# Altium integrated library xc7k160t.IntLib: 62 symbols (part 1 of 2)
Pins are listed as number, name and electrical type; pins without a type are passive.

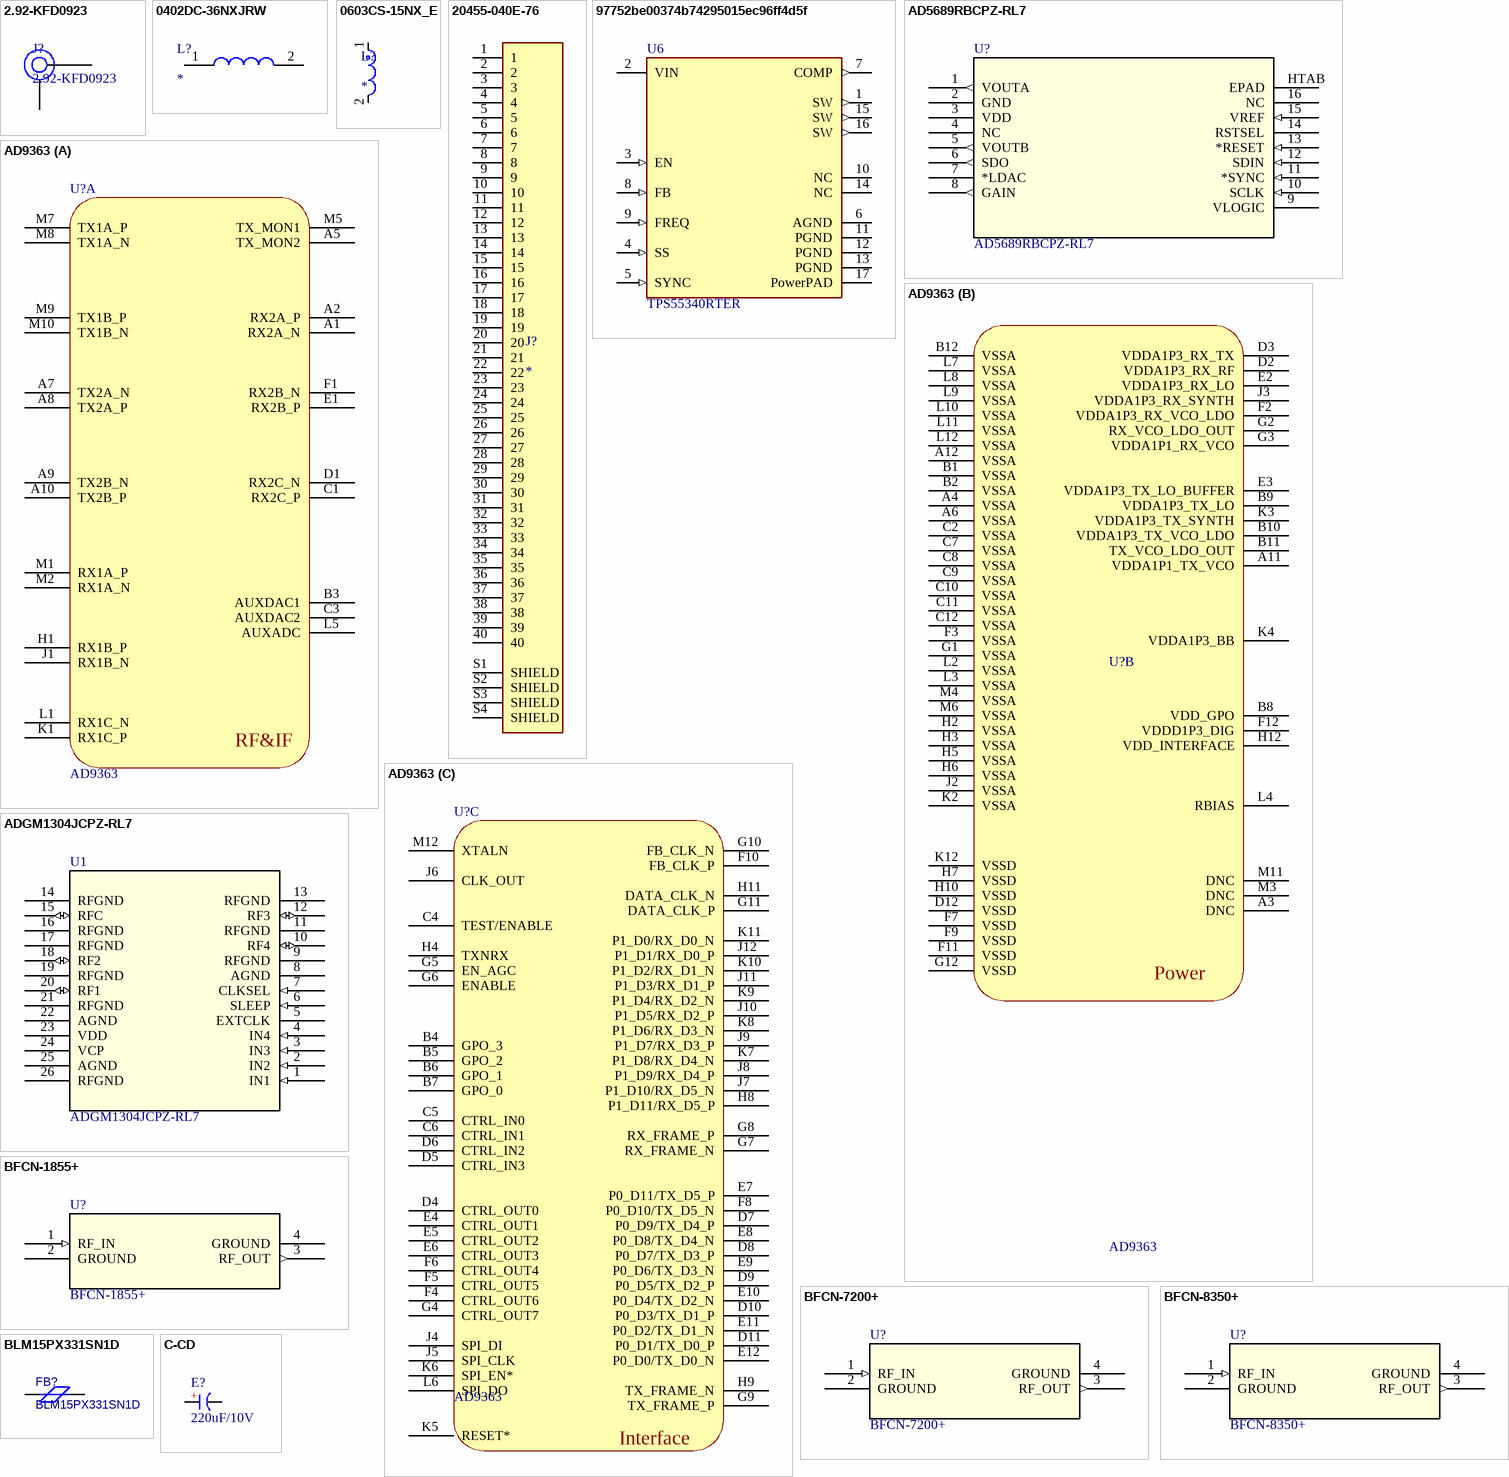
[diagram p0: symbols 2.92-KFD0923 to C-CD]

## 2.92-KFD0923
designator J?
DC-40GHz 2.92-KFD0923 / https://item.taobao.com/item.htm?spm=a230r.1.14.3.7a3843c14kVNjO&id=651065869210&ns=1&abbucket=15#detail
footprint 2.92-KFD0923
pins: 0, 1

## 0402DC-36NXJRW
designator L?
Inductor; Manufacturer_Name: COILCRAFT; Manufacturer_Part_Number: 0402DC-36NXJRW; Datasheet Link: https://componentsearchengine.com/Datasheets/1/0402DC-36NXJRW.pdf; Height: 0.65mm; Mouser Part Number: 994-0402DC-36NXJRW; Mouser Price/Stock: https://www.mouser.co.uk/ProductDetail/Coilcraft/0402DC-36NXJRW?qs=wnTfsH77Xs5b4nmRQW6u0w%3D%3D
footprint 0402DC SERIES (Coilcraft Chip Inductor)
pins: 1, 2

## 0603CS-15NX_E
designator L?
Ultra-small size, exceptional Q and high SRFs make these inductors ideal for high frequency applications where size is at a premium. They also have excellent DCR and current carrying / characteristics.
footprint 0603CS SERIES (Coilcraft Chip Inductor)
pins: 1, 2

## 20455-040E-76
designator J?
CMOS Connector 40Pin; MP: 20455-040E-76; Package: None; Price: None; Value: *; Availability: Unavailable
footprint IPEX_20455-040E-76
pins: 1, 2, 3, 4, 5, 6, 7, 8, 9, 10, 11, 12, 13, 14, 15, 16, 17, 18, 19, 20, 21, 22, 23, 24, 25, 26, 27, 28, 29, 30, 31, 32, 33, 34, 35, 36, 37, 38, 39, 40, S1 SHIELD, S2 SHIELD, S3 SHIELD, S4 SHIELD

## 97752be00374b74295015ec96ff4d5f
designator U6, comment TPS55340RTER
IC REG BOOST ADJ 5.25A 16WQFN; Number of Outputs: 1; Max Output Current: 5A; Max Output Voltage: 38V; Quiescent Current: 500uA; Synchronous Rectifier: No; Output Type: Adjustable; Switching Frequency: 1.14MHz; Min Input Voltage: 2.9V; Max Input Voltage: 32V; Topology: Boost; Number of Pins: 16; RoHS Compliant: Yes; Package Quantity: 3000; REACH SVHC: No SVHC; Mount: Surface Mount; Max Operating Temperature: 150°C; Contact Plating: Gold; Output Voltage: 38V; Min Operating Temperature: -40°C; Output Current: 5A; Lead Free: Lead Free; Series: -; Min Output Voltage: 2.9V; Packaging: Tape and Reel
footprint FP-RTE0016C-IPC_A
pins: 1 SW (out), 2 VIN (power), 3 EN (in), 4 SS (in), 5 SYNC (in), 6 AGND (power), 7 COMP (out), 8 FB (in), 9 FREQ (in), 10 NC, 11 PGND (power), 12 PGND (power), 13 PGND (power), 14 NC, 15 SW (out), 16 SW (out), 17 PowerPAD (power)

## AD5689RBCPZ-RL7
designator U?
Dual, 16-/12-Bit nanoDAC+ with 2 ppm/°C Reference, SPI Interface; Vendor: Analog Devices Inc; Built_By: EMA_UL_Team; SourceLibrary: Analog_2015-01-06; Manufacturer_Part_Number: AD5689RBCPZ-RL7; Copyright: Copyright (C) 2021 Accelerated Designs. All rights reserved; RefDes: RefDes; Type: DEV
footprint CP_16_22_ADI
footprint CP_16_22_ADI-L
pins: 1 VOUTA (out), 2 GND (power), 3 VDD (power), 4 NC, 5 VOUTB (out), 6 SDO (out), 7 *LDAC, 8 GAIN (out), 9 VLOGIC (power), 10 SCLK (in), 11 *SYNC (in), 12 SDIN (in), 13 *RESET (in), 14 RSTSEL, 15 VREF (in), 16 NC, HTAB EPAD

## AD9363
designator U?
footprint AD936X (Footprint not found)
part A pins: A1 RX2A_N, A2 RX2A_P, A5 TX_MON2, A7 TX2A_N, A8 TX2A_P, A9 TX2B_N, A10 TX2B_P, B3 AUXDAC1, C1 RX2C_P, C3 AUXDAC2, D1 RX2C_N, E1 RX2B_P, F1 RX2B_N, H1 RX1B_P, J1 RX1B_N, K1 RX1C_P, L1 RX1C_N, L5 AUXADC, M1 RX1A_P, M2 RX1A_N, M5 TX_MON1, M7 TX1A_P, M8 TX1A_N, M9 TX1B_P, M10 TX1B_N
part B pins: A3 DNC, A4 VSSA, A6 VSSA, A11 VDDA1P1_TX_VCO, A12 VSSA, B1 VSSA, B2 VSSA, B8 VDD_GPO, B9 VDDA1P3_TX_LO, B10 VDDA1P3_TX_VCO_LDO, B11 TX_VCO_LDO_OUT, B12 VSSA, C2 VSSA, C7 VSSA, C8 VSSA, C9 VSSA, C10 VSSA, C11 VSSA, C12 VSSA, D2 VDDA1P3_RX_RF, D3 VDDA1P3_RX_TX, D12 VSSD, E2 VDDA1P3_RX_LO, E3 VDDA1P3_TX_LO_BUFFER, F2 VDDA1P3_RX_VCO_LDO, F3 VSSA, F7 VSSD, F9 VSSD, F11 VSSD, F12 VDDD1P3_DIG, G1 VSSA, G2 RX_VCO_LDO_OUT, G3 VDDA1P1_RX_VCO, G12 VSSD, H2 VSSA, H3 VSSA, H5 VSSA, H6 VSSA, H7 VSSD, H10 VSSD, H12 VDD_INTERFACE, J2 VSSA, J3 VDDA1P3_RX_SYNTH, K2 VSSA, K3 VDDA1P3_TX_SYNTH, K4 VDDA1P3_BB, K12 VSSD, L2 VSSA, L3 VSSA, L4 RBIAS, L7 VSSA, L8 VSSA, L9 VSSA, L10 VSSA, L11 VSSA, L12 VSSA, M3 DNC, M4 VSSA, M6 VSSA, M11 DNC
part C pins: B4 GPO_3, B5 GPO_2, B6 GPO_1, B7 GPO_0, C4 TEST/ENABLE, C5 CTRL_IN0, C6 CTRL_IN1, D4 CTRL_OUT0, D5 CTRL_IN3, D6 CTRL_IN2, D7 P0_D9/TX_D4_P, D8 P0_D7/TX_D3_P, D9 P0_D5/TX_D2_P, D10 P0_D3/TX_D1_P, D11 P0_D1/TX_D0_P, E4 CTRL_OUT1, E5 CTRL_OUT2, E6 CTRL_OUT3, E7 P0_D11/TX_D5_P, E8 P0_D8/TX_D4_N, E9 P0_D6/TX_D3_N, E10 P0_D4/TX_D2_N, E11 P0_D2/TX_D1_N, E12 P0_D0/TX_D0_N, F4 CTRL_OUT6, F5 CTRL_OUT5, F6 CTRL_OUT4, F8 P0_D10/TX_D5_N, F10 FB_CLK_P, G4 CTRL_OUT7, G5 EN_AGC, G6 ENABLE, G7 RX_FRAME_N, G8 RX_FRAME_P, G9 TX_FRAME_P, G10 FB_CLK_N, G11 DATA_CLK_P, H4 TXNRX, H8 P1_D11/RX_D5_P, H9 TX_FRAME_N, H11 DATA_CLK_N, J4 SPI_DI, J5 SPI_CLK, J6 CLK_OUT, J7 P1_D10/RX_D5_N, J8 P1_D9/RX_D4_P, J9 P1_D7/RX_D3_P, J10 P1_D5/RX_D2_P, J11 P1_D3/RX_D1_P, J12 P1_D1/RX_D0_P, K5 RESET*, K6 SPI_EN*, K7 P1_D8/RX_D4_N, K8 P1_D6/RX_D3_N, K9 P1_D4/RX_D2_N, K10 P1_D2/RX_D1_N, K11 P1_D0/RX_D0_N, L6 SPI_DO, M12 XTALN
part A text: RF&IF
part B text: Power
part C text: Interface

## ADGM1304JCPZ-RL7
designator U1
0 Hz/dc to 14 GHz, Single-Pole, Four-Throw MEMS Switch with Integrated Driver; Mfr_Name: Analog Devices Inc; Copyright: Copyright (C) 2022 Ultra Librarian. All rights reserved.; Manufacturer_Part_Number: ADGM1304JCPZ-RL7; RefDes: RefDes; Type: DEV
footprint CP-24-9_ADI
footprint CP-24-9_ADI-L
pins: 1 IN1 (in), 2 IN2 (in), 3 IN3 (in), 4 IN4 (in), 5 EXTCLK, 6 SLEEP (in), 7 CLKSEL (in), 8 AGND, 9 RFGND, 10 RF4 (io), 11 RFGND, 12 RF3 (io), 13 RFGND, 14 RFGND, 15 RFC (io), 16 RFGND, 17 RFGND, 18 RF2 (io), 19 RFGND, 20 RF1 (io), 21 RFGND, 22 AGND, 23 VDD (power), 24 VCP (power), 25 AGND, 26 RFGND

## BFCN-1855+
designator U?
Mini-Circuits LTCC Bandpass Filter; Manufacturer_Part_Number: BFCN-2435+; Vendor: Mini Circuits; Built_By: EMA_Cory; SourceLibrary: Mini_Circuits_2019-12-02; Copyright: Copyright (C) 2018 Accelerated Designs. All rights reserved; RefDes: RefDes; Type: DEV
footprint FV1206_MNC-L
pins: 1 RF_IN (in), 2 GROUND, 3 RF_OUT (out), 4 GROUND

## BFCN-7200+
designator U?
Mini-Circuits LTCC Bandpass Filter; Vendor: Mini Circuits; Built_By: EMA_Cory; SourceLibrary: Mini_Circuits_2020-04-01; Datasheet: https://www.minicircuits.com/pdfs/BFCN-7200+.pdf; Manufacturer_Part_Number: BFCN-7200+; Copyright: Copyright (C) 2018 Accelerated Designs. All rights reserved; RefDes: RefDes; Type: DEV
footprint FV1206-4_MNC-L
pins: 1 RF_IN (in), 2 GROUND, 3 RF_OUT (out), 4 GROUND

## BFCN-8350+
designator U?
Mini-Circuits LTCC Bandpass Filter; Manufacturer_Part_Number: BFCN-7200+; Vendor: Mini Circuits; Built_By: EMA_Cory; SourceLibrary: Mini_Circuits_2020-04-01; Datasheet: https://www.minicircuits.com/pdfs/BFCN-7200+.pdf; Copyright: Copyright (C) 2018 Accelerated Designs. All rights reserved; RefDes: RefDes; Type: DEV
footprint FV1206-4_MNC-L
pins: 1 RF_IN (in), 2 GROUND, 3 RF_OUT (out), 4 GROUND

## BLM15PX331SN1D
designator FB?
330 Ohms @ 100 MHz 1 Power Line Ferrite Bead 0402 (1005 Metric) 1.2A 150mOhm from Murata Electronics; Contributor: LCSC; BOM_Supplier: LCSC; BOM_Supplier Part: C160975; BOM_Manufacturer: Murata Electronics; BOM_Manufacturer Part: BLM15PX331SN1D; spicePre: U; spiceSymbolName: BLM15PX331SN1D
footprint L0402
pins: 1, 2

## C-CD
designator E?, comment 220uF/10V
贴片钽电容; 版权归属: 源创客; BOM名称: 贴片钽电容; 学习资源: www.ooocke.com
footprint CD A(3216) (长3.2mm，宽1.6mm，厚1.6mm)
footprint CD B(3528) (长3.5mm，宽2.8mm，厚1.9mm)
footprint CD C(6032) (长6.0mm，宽3.2mm，厚2.5mm)
footprint CD D(7343) (长7.3mm，宽4.3mm，厚2.8mm)
footprint CD E(7343H) (长7.3mm，宽4.3mm，厚4.0mm)
footprint CD S(2012) (长2.0mm，宽1.25mm，厚1.2mm)
pins: 1 A, 2 K
text: +

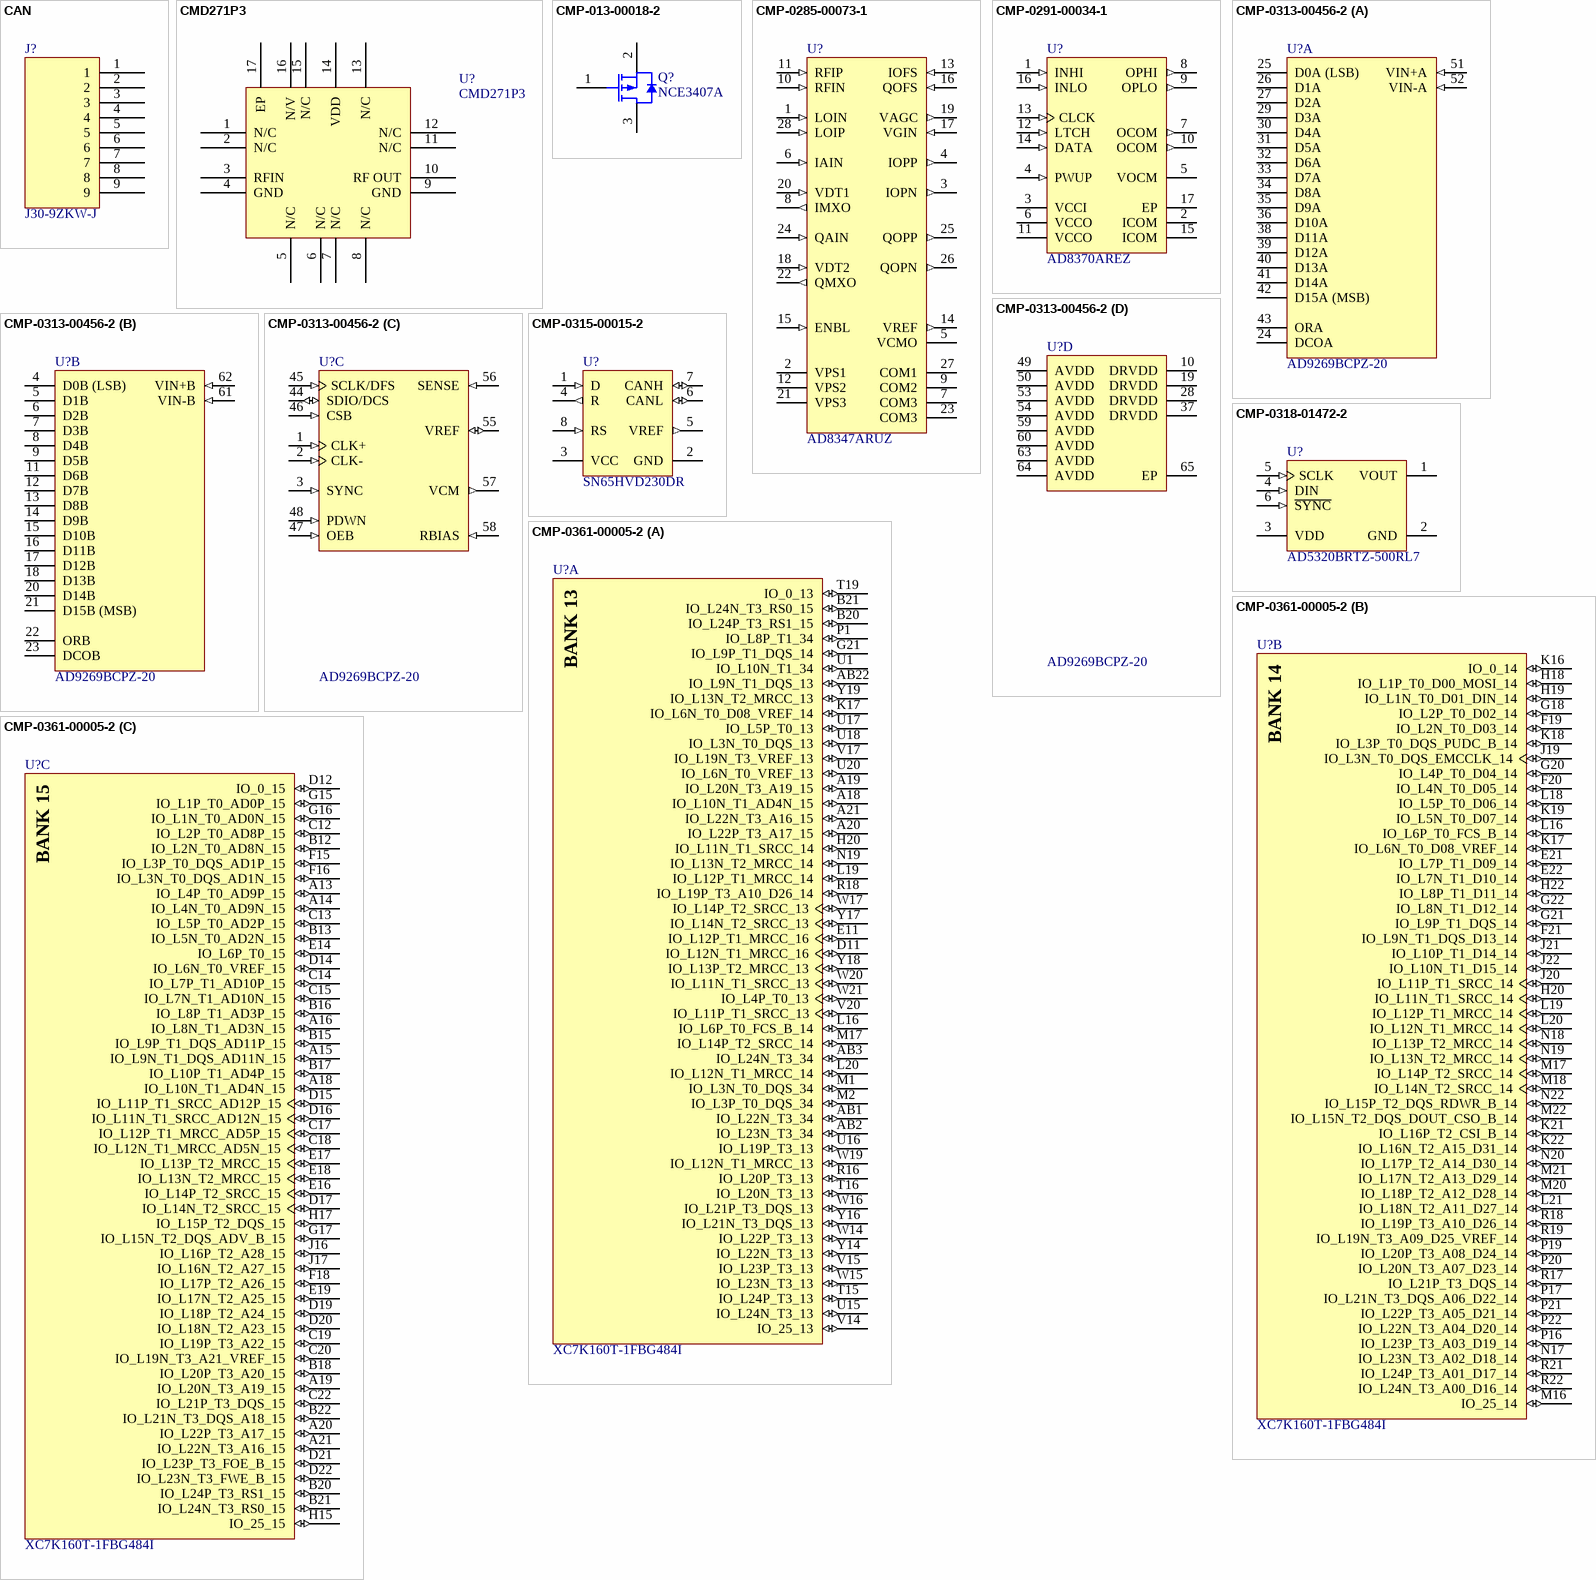
[diagram p1: symbols CAN to CMP-0361-00005-2]

## CAN
designator J?, comment J30-9ZKW-J
J30-9ZKW-J Connector
footprint CAN
pins: 1, 2, 3, 4, 5, 6, 7, 8, 9

## CMD271P3
designator U?
The CMD271P3 is a broadband MMIC low noise amplifier housed in a leadless 3x3 mm plastic surface mount QFN package.
footprint CMD271P3_QFN_MODIFIED (QFN, 16-Leads, Body 3.00x3.00mm, Pitch 0.50mm, Thermal Pad 1.50x1.50mm, IPC Medium Density)
pins: 1 N/C, 2 N/C, 3 RFIN, 4 GND, 5 N/C, 6 N/C, 7 N/C, 8 N/C, 9 GND, 10 RF OUT, 11 N/C, 12 N/C, 13 N/C, 14 VDD, 15 N/C, 16 N/V, 17 EP

## CMP-013-00018-2
designator Q?, comment NCE3407A
P-Channel Enhancement Mode Power MOSFET, 30 V, 4.3 A, - 55 to 150 degC, 3-Pin SOT23, RoHS, Tape and Reel; Manufacturer: NCE Power; Mounting Technology: SM; Package Reference: SOT23-3; Case/Package: SOT23-3; Package Description: 3-Pin Small Outline Transistor, Body 2.9 x 1.3 mm, Pitch 0.95 mm; Datasheet Version: Rev. 1.1, 07/2014; RoHS Compliant: Unknown; Datasheet URL: http://www.ncepower.com/Upload/MOSFET/mos1/55vpmos/NCE3407Adatasheet-17275285683.pdf; Component Type: Transistors
footprint NCEP-SOT23-3_M (SOT23, 3-Leads, Body 3x1.4mm, Pitch 0.95mm, IPC Low Density)
footprint NCEP-SOT23-3_N (SOT23, 3-Leads, Body 3x1.4mm, Pitch 0.95mm, IPC Medium Density)
footprint NCEP-SOT23-3_L (SOT23, 3-Leads, Body 3x1.4mm, Pitch 0.95mm, IPC High Density)
pins: 1 GATE, 2 SOURCE, 3 DRAIN

## CMP-0285-00073-1
designator U?, comment AD8347ARUZ
0.8 GHz to 2.7 GHz Direct Conversion Quadrature Demodulator, RU-28, Pb-Free, 50 Tube; Manufacturer: Analog Devices; IIP3 (+dBm): 11.5dBm; Output P1dB (dBm): 2; Amplitude Error (dB): 300mdB; IQ Freq (MHz): 65MHz; VGA Range (dB): 69.5dB; Min RF Frequency (MHz): 800MHz; Max RF Frequency (MHz): 2.7GHz; Phase Error (deg): 1Deg; PackageDescription: 28-Lead Thin Shrink Small Outline Package [TSSOP]; ComponentLink2URL: http://www.analog.com/static/imported-files/data_sheets/AD8347.pdf; PackageVersion: 2005; ComponentLink3Description: Package Specification; ComponentLink1URL: www.analog.com; Code_JEDEC: MO-153-AE; PackageReference: RU-28; DatasheetVersion: Rev. A; ComponentLink1Description: Manufacturer URL; ComponentLink2Description: Datasheet; ComponentLink3URL: http://www.analog.com/static/imported-files/packages/249854663RU_28.pdf; Manufacturer Part Number: AD8347ARUZ
footprint ADI-RU-28_M (TSOP, 28-Leads, Body 9.7x4.4mm, Pitch 0.65mm, IPC Low Density)
footprint ADI-RU-28_L (TSOP, 28-Leads, Body 9.7x4.4mm, Pitch 0.65mm, IPC High Density)
footprint ADI-RU-28_N (TSOP, 28-Leads, Body 9.7x4.4mm, Pitch 0.65mm, IPC Medium Density)
pins: 1 LOIN (in) "LO Input. For optimum performance, these inputs are differentially driven. Typical input drive level is equal to -8 dBm.[see datasheet]", 2 VPS1 (power) "Positive Supply for LO Section. Decouple VPS1 with 0.1 uF and 100 pF capacitors.", 3 IOPN (out) "I-Channel Differential Baseband Output. Typical output swing is equal to 760 mV p-p differential in AGC mode. The common-mode level on these pins is programmed by the voltage on VCMO.", 4 IOPP (out) "I-Channel Differential Baseband Output. Typical output swing is equal to 760 mV p-p differential in AGC mode. The common-mode level on these pins is programmed by the voltage on VCMO.", 5 VCMO "Baseband Amplifier Common-Mode Voltage. The voltage applied to this pin sets the output common-mode level of the baseband amplifiers.[see datasheet]", 6 IAIN (in) "I-Channel Baseband Amplifier Input. This pin, which has a high input impedance, should be biased to VREF (approximately 1 V).[see datasheet]", 7 COM3 (power) "Ground for Biasing and Baseband Sections.", 8 IMXO (out) "I-Channel and Q-Channel Baseband Mixer/VGA Outputs. Low impedance outputs with bias levels equal to VREF.[see datasheet]", 9 COM2 (power) "RF Section Ground.", 10 RFIN (in) "RF Input. RFIN must be ac-coupled to ground. The RF input signal should be ac-coupled into RFIP.[see datasheet]", 11 RFIP (in) "RF Input. RFIN must be ac-coupled to ground. The RF input signal should be ac-coupled into RFIP.[see datasheet]", 12 VPS2 (power) "Positive Supply for RF Section. Decouple VPS2 with 0.1 uF and 100 pF capacitors.", 13 IOFS (in) "I-Channel Offset Nulling Inputs.", 14 VREF (out) "Reference Voltage Output. This output voltage (1 V) is the main bias level for the device and can be used to externally bias the inputs and outputs of the baseband amplifiers. [see datasheet]", 15 ENBL (in) "Chip Enable Input. Active high.", 16 QOFS (in) "Q-Channel Offset Nulling Inputs.", 17 VGIN (in) "Gain Control Input. The voltage on this pin controls the gain on the RF and baseband VGAs. The gain control is applied in parallel to all VGAs.[see datasheet]", 18 VDT2 (in) "Detector Inputs. These pins are the inputs to the on-board detector. VDT2 and VDT1, which have high input impedances, are normally connected to IMXO and QMXO, respectively.", 19 VAGC (out) "AGC Output. This pin provides the output voltage from the on-board detector. In AGC mode, connect this pin directly to VGIN.", 20 VDT1 (in) "Detector Inputs. These pins are the inputs to the on-board detector. VDT2 and VDT1, which have high input impedances, are normally connected to IMXO and QMXO, respectively.", 21 VPS3 (power) "Positive Supply for Biasing and Baseband Sections. Decouple VPS3 with 0.1 uF and 100 pF capacitors.", 22 QMXO (out) "I-Channel and Q-Channel Baseband Mixer/VGA Outputs. Low impedance outputs with bias levels equal to VREF.[see datasheet]", 23 COM3 (power) "Ground for Biasing and Baseband Sections.", 24 QAIN (in) "Q-Channel Baseband Amplifier Input. Bias this high input impedance pin to VREF (approximately 1 V). If QAIN is directly connected to QMXO, biasing is provided by QMXO.[see datasheet]", 25 QOPP (out) "Q-Channel Differential Baseband Output. Typical output swing is equal to 760 mV p-p differential. The common-mode level on these pins is programmed by the voltage on VCMO.", 26 QOPN (out) "Q-Channel Differential Baseband Output. Typical output swing is equal to 760 mV p-p differential. The common-mode level on these pins is programmed by the voltage on VCMO.", 27 COM1 (power) "LO Section Ground.", 28 LOIP (in) "LO Input. For optimum performance, these inputs are differentially driven. Typical input drive level is equal to -8 dBm.[see datasheet]"

## CMP-0291-00034-1
designator U?, comment AD8370AREZ
LF to 750 MHz, Digitally Controlled VGA, 34dB, 5.5V, 78mA, RE-16-2, Pb-Free, 96 Tube; Manufacturer: Analog Devices; Spectral Noise: 2.1(nV/rtHz); Noise Figure: 7.4dB; Distortion (3rd): 62dBc; Distortion (2nd): 65dBc; Output IP3: 31dBm; -3 dB BW: 750MHz; ComponentLink3URL: http://www.analog.com/static/imported-files/packages/PKG_PDF/TSSOP_EP(RE)/RE_16_2.pdf; Gain: 34dB; Code_JEDEC: MO-153-ABT; DatasheetVersion: Rev. B; PackageDescription: 16-Lead Thin Shrink Small Outline With Exposed Pad [TSSOP_EP]; ComponentLink2URL: http://www.analog.com/static/imported-files/data_sheets/AD8370.pdf; PackageVersion: 050806-A; ComponentLink2Description: Datasheet; PackageReference: RE-16-2; ComponentLink3Description: Package Specification; Supply Voltage (V): 5.5V; ComponentLink1URL: www.analog.com; ComponentLink1Description: Manufacturer URL; Manufacturer Part Number: AD8370AREZ
footprint ADI-RE-16-2_M (TSOP, 16-Leads, Body 5x4.4mm, Pitch 0.65mm, Thermal Pad, IPC Low Density)
footprint ADI-RE-16-2_N (TSOP, 16-Leads, Body 5x4.4mm, Pitch 0.65mm, Thermal Pad, IPC Medium Density)
footprint ADI-RE-16-2_L (TSOP, 16-Leads, Body 5x4.4mm, Pitch 0.65mm, Thermal Pad, IPC High Density)
pins: 1 INHI (in) "Balanced Differential Input. Internally biased.", 2 ICOM (power) "Input Common. Connect to a low impedance ground. This node is also connected to the exposed pad on the bottom of the device.", 3 VCCI (power) "Input Positive Supply. 3.0 V to 5.5 V. Should be properly bypassed.", 4 PWUP (in) "Power Enable Pin. Device is operational when PWUP is pulled high.", 5 VOCM "Common-Mode Output Voltage Pin. The midsupply ((VVCCO - VOCOM)/2) common-mode voltage is delivered to this pin for external bypassing for additional common-mode supply decoupling. [see datasheet]", 6 VCCO (power) "Output Positive Supply. 3.0 V to 5.5 V. Should be properly bypassed.", 7 OCOM (out) "Output Common. Connect to a low impedance ground.", 8 OPHI (out) "Balanced Differential Output. Biased to midsupply.", 9 OPLO (out) "Balanced Differential Output. Biased to midsupply", 10 OCOM (out) "Output Common. Connect to a low impedance ground.", 11 VCCO (power) "Output Positive Supply. 3.0 V to 5.5 V. Should be properly bypassed.", 12 LTCH (in) "Serial Data Latch Pin. Serial data is clocked into the shift register via the DATA pin when LTCH is low. Data in shift register is latched on the next high-going edge.", 13 CLCK (in) "Serial Clock Input Pin.", 14 DATA (in) "Serial Data Input Pin.", 15 ICOM (power) "Input Common. Connect to a low impedance ground. This node is also connected to the exposed pad on the bottom of the device.", 16 INLO (in) "Balanced Differential Input.Internally biased.", 17 EP (power) "Exposed pad must be soldered to ground."

## CMP-0313-00456-2
designator U?, comment AD9269BCPZ-20
Dual 16-Bit Analog-to-Digital Converter with Parallel Interface, 1.8 V, 20MSPS, -40 to +85 degC, CP-64-4, Pb-Free, Tray; Manufacturer: Analog Devices; Generic Part Number: AD9269-20; Channels: 2; Throughput Rate (SPS): 20M; Resolution (Bits): 16; Interface: Par; DatasheetVersion: Rev.0; ComponentLink4URL: http://www.analog.com/en/analog-to-digital-converters/ad-converters/ad9269/products/product.html; ComponentLink1URL: http://www.analog.com/en/index.html; PartNumber: AD9269BCPZ-20; Mounting Technology: Surface Mount; PackageDescription: 64-Lead Lead Frame Chip Scale Package [LFCSP_VQ] 9 x 9 mm Body, Very Thin Quad; RoHS: Y; PackageVersion: 051007-C; ComponentLink3Description: Package Specification; ComponentLink2URL: http://www.analog.com/static/imported-files/data_sheets/AD9269.pdf; ComponentLink1Description: Manufacturer URL; PackageReference: CP-64-4; Code_JEDEC: MO-220-VMMD-4; ComponentLink2Description: Datasheet; Packing: Tray; ComponentLink4Description: Product URL; ComponentLink3URL: http://www.analog.com/static/imported-files/packages/PKG_PDF/LFCSP(CP)/CP_64_4.pdf; Manufacturer Part Number: AD9269BCPZ-20
footprint CP-64-4_N (QFN, 64-Leads, Body 9x9mm, Pitch 0.5mm, Thermal Pad 6.2x6.2mm, IPC Medium Density)
footprint CP-64-4_M (QFN, 64-Leads, Body 9x9mm, Pitch 0.5mm, Thermal Pad 6.2x6.2mm, IPC Low Density)
footprint CP-64-4_L (QFN, 64-Leads, Body 9x9mm, Pitch 0.5mm, Thermal Pad 6.2x6.2mm, IPC High Density)
part A pins: 24 DCOA (hiz) "Channel A Data Clock Digital Output.", 25 D0A (LSB) (hiz) "Channel A Digital Outputs.", 26 D1A (hiz) "Channel A Digital Outputs.", 27 D2A (hiz) "Channel A Digital Outputs.", 29 D3A (hiz) "Channel A Digital Outputs.", 30 D4A (hiz) "Channel A Digital Outputs.", 31 D5A (hiz) "Channel A Digital Outputs.", 32 D6A (hiz) "Channel A Digital Outputs.", 33 D7A (hiz) "Channel A Digital Outputs.", 34 D8A (hiz) "Channel A Digital Outputs.", 35 D9A (hiz) "Channel A Digital Outputs.", 36 D10A (hiz) "Channel A Digital Outputs.", 38 D11A (hiz) "Channel A Digital Outputs.", 39 D12A (hiz) "Channel A Digital Outputs.", 40 D13A (hiz) "Channel A Digital Outputs.", 41 D14A (hiz) "Channel A Digital Outputs.", 42 D15A (MSB) (hiz) "Channel A Digital Outputs.", 43 ORA (hiz) "Channel A Out-of-Range Digital Output.", 51 VIN+A (in) "Channel A Analog Inputs.", 52 VIN-A (in) "Channel A Analog Inputs."
part B pins: 4 D0B (LSB) (hiz) "Channel B Digital Outputs.", 5 D1B (hiz) "Channel B Digital Outputs.", 6 D2B (hiz) "Channel B Digital Outputs.", 7 D3B (hiz) "Channel B Digital Outputs.", 8 D4B (hiz) "Channel B Digital Outputs.", 9 D5B (hiz) "Channel B Digital Outputs.", 11 D6B (hiz) "Channel B Digital Outputs.", 12 D7B (hiz) "Channel B Digital Outputs.", 13 D8B (hiz) "Channel B Digital Outputs.", 14 D9B (hiz) "Channel B Digital Outputs.", 15 D10B (hiz) "Channel B Digital Outputs.", 16 D11B (hiz) "Channel B Digital Outputs.", 17 D12B (hiz) "Channel B Digital Outputs.", 18 D13B (hiz) "Channel B Digital Outputs.", 20 D14B (hiz) "Channel B Digital Outputs.", 21 D15B (MSB) (hiz) "Channel B Digital Outputs.", 22 ORB (hiz) "Channel B Out-of-Range Digital Output.", 23 DCOB (hiz) "Channel B Data Clock Digital Output.", 61 VIN-B (in) "Channel B Analog Inputs.", 62 VIN+B (in) "Channel B Analog Inputs."
part C pins: 1 CLK+ (in) "Differential Encode Clock. PECL, LVDS, or 1.8 V CMOS inputs.", 2 CLK- (in) "Differential Encode Clock. PECL, LVDS, or 1.8 V CMOS inputs.", 3 SYNC (in) "Digital Input. SYNC input to clock divider. 30 k ohm internal pull-down.", 44 SDIO/DCS (io) "SPI Data Input/Output (SDIO). Bidirectional SPI data I/O in SPI mode. 30 k ohm internal pull-down in SPI mode. Duty Cycle Stabilizer (DCS). Static enable input for duty cycle stabilizer in non-SPI mode. 30 k ohm internal pull-up (See Datasheet)", 45 SCLK/DFS (in) "SPI Clock (SCLK). Input in SPI mode. 30 k ohm internal pull-down. Data Format Select (DFS). Static control of data output format in non-SPI mode. 30 k ohm internal pull-down. DFS high: twos complement output. DFS low: offset (See Datasheet)", 46 CSB (in) "SPI Chip Select. Active low enable; 30 k ohm internal pull-up.", 47 OEB (in) "Digital Input. 30 k ohm internal pull-down. Low: enable Channel A and Channel B digital outputs. High: three-state outputs.", 48 PDWN (in) "Digital Input. 30 k ohm internal pull-down. High: power down device. Low: run device, normal operation.", 55 VREF (io) "Voltage Reference Input/Output.", 56 SENSE (in) "Reference Mode Selection.", 57 VCM (out) "Analog Output Voltage at Midsupply. Sets the common mode of the analog inputs.", 58 RBIAS (in) "Set Analog Current Bias. Connect to 10 k ohm (1% tolerance) resistor to ground."
part D pins: 10 DRVDD (power) "Digital Output Driver Supply (1.8 V to 3.3 V).", 19 DRVDD (power) "Digital Output Driver Supply (1.8 V to 3.3 V).", 28 DRVDD (power) "Digital Output Driver Supply (1.8 V to 3.3 V).", 37 DRVDD (power) "Digital Output Driver Supply (1.8 V to 3.3 V).", 49 AVDD (power) "1.8 V Analog Supply Pins.", 50 AVDD (power) "1.8 V Analog Supply Pins.", 53 AVDD (power) "1.8 V Analog Supply Pins.", 54 AVDD (power) "1.8 V Analog Supply Pins.", 59 AVDD (power) "1.8 V Analog Supply Pins.", 60 AVDD (power) "1.8 V Analog Supply Pins.", 63 AVDD (power) "1.8 V Analog Supply Pins.", 64 AVDD (power) "1.8 V Analog Supply Pins.", 65 EP (power) "The exposed paddle is the only ground connection. It must be soldered to the PCB analog ground to ensure proper functionality and heat dissipation, noise, and mechanical strength benefits."

## CMP-0315-00015-2
designator U?, comment SN65HVD230DR
3.3V CAN Transceiver with Standby Mode, 17 mA, -40 to 85 degC, 8-pin SOIC (D), Green (RoHS & no Sb/Br); Manufacturer: Texas Instruments; Rating: Catalog; Transient Pulse Protection(V): -25 to 25; Receivers Per Package: 1; ICC(Max)(mA): 17; Supply Voltage(s)(V): 3.3; Low Power Mode: Standby; Mounting Technology: Surface Mount; PackageReference: D0008A; Footprint: PCA82C250; ComponentLink1URL: http://www.ti.com/general/docs/lit/getliterature.tsp?genericPartNumber=SN65HVD230&fileType=pdf; Code_JEDEC: MS-012AA; ComponentLink1Description: Datasheet; Eco-Plan: Green (RoHS & no Sb/Br); PartNumber: SN65HVD230DR; PackageDescription: 8-Pin Plastic Small Outline Integrated Circuit, 4.9 x 3.9 mm, Pitch 1.27 mm Pitch; Isolated: No; DatasheetVersion: SLOS346K; PackageVersion: revM, Jun-2011; SubFamily: CAN; Drivers Per Package: 1; Manufacturer Part Number: SN65HVD230DR
footprint D0008A_L (SOIC, 8-Leads, Body 5x4mm, Pitch 1.27mm, IPC High Density)
footprint D0008A_M (SOIC, 8-Leads, Body 5x4mm, Pitch 1.27mm, IPC Low Density)
footprint D0008A_N (SOIC, 8-Leads, Body 5x4mm, Pitch 1.27mm, IPC Medium Density)
pins: 1 D (in) "Driver input", 2 GND (power) "Ground", 3 VCC (power) "Supply voltage", 4 R (out) "Receiver output", 5 VREF (out) "Reference output", 6 CANL (io) "Low bus output", 7 CANH (io) "High bus output", 8 RS (in) "Standby/slope control"

## CMP-0318-01472-2
designator U?, comment AD5320BRTZ-500RL7
Single 12-Bit Rail-to-Rail Output Digital-to-Analog Converter, 2.7 to 5.5 V, 140 uA, -40 to +105 degC, RJ-6, Pb-Free, Reel; Manufacturer: Analog Devices; Generic Part Number: AD5320; Op Pwr Diss: 345ÂµW; Settling Time: 8Âµs; Single Supply: Yes; Resolution (Bits): 12; # DAC Outputs: 1; Max V+: 5.5V; PartNumber: AD5320BRTZ-500RL7; ComponentLink4Description: Product URL; ComponentLink3URL: http://www.analog.com/static/imported-files/packages/PKG_PDF/SOT-23(RJ)/RJ_6.pdf; ComponentLink1URL: http://www.analog.com/en/index.html; ComponentLink3Description: Package Specification; Code_JEDEC: MO-178-AB; PackageReference: RJ-6; Mounting Technology: Surface Mount; RoHS: Y; PackageDescription: 6-Lead Small Outline Transistor Package [SOT-23]; Packing: Reel; ComponentLink2URL: http://www.analog.com/static/imported-files/data_sheets/AD5320.pdf; ComponentLink2Description: Datasheet; ComponentLink4URL: http://www.analog.com/en/digital-to-analog-converters/da-converters/ad5320/products/product.html; RevisionNote: Component URL fixed; ComponentLink1Description: Manufacturer URL; DatasheetVersion: Rev.C; PackageVersion: 121608-A; Manufacturer Part Number: AD5320BRTZ-500RL7
footprint RJ-6_N (SOT23, 6-Leads, Body 2.9x1.6mm, Pitch 0.95mm, Lead Span 2.8mm, IPC Medium Density)
footprint RJ-6_L (SOT23, 6-Leads, Body 2.9x1.6mm, Pitch 0.95mm, Lead Span 2.8mm, IPC High Density)
footprint RJ-6_M (SOT23, 6-Leads, Body 2.9x1.6mm, Pitch 0.95mm, Lead Span 2.8mm, IPC Low Density)
pins: 1 VOUT (hiz) "Analog Output Voltage from DAC. The output amplifier has rail-to-rail operation.", 2 GND (power) "Ground Reference Point for All Circuitry on the Part.", 3 VDD (power) "Power Supply Input. These parts can be operated from 2.5 V to 5.5 V and VDD should be decoupled to GND.", 4 DIN (in) "Serial Data Input. This device has a 16-bit shift register. Data is clocked into the register on the falling edge of the serial clock input.", 5 SCLK (in) "Serial Clock Input. Data is clocked into the input shift register on the falling edge of the serial clock input. Data can be transferred at rates up to 30 MHz.", 6 ~{SYNC} (in) "Level Triggered Control Input (Active Low). This is the frame synchronization signal for the input data. When S\Y\N\C\ goes low, it enables the input shift register and data is transferred in on the falling edges of the (See Datasheet)"

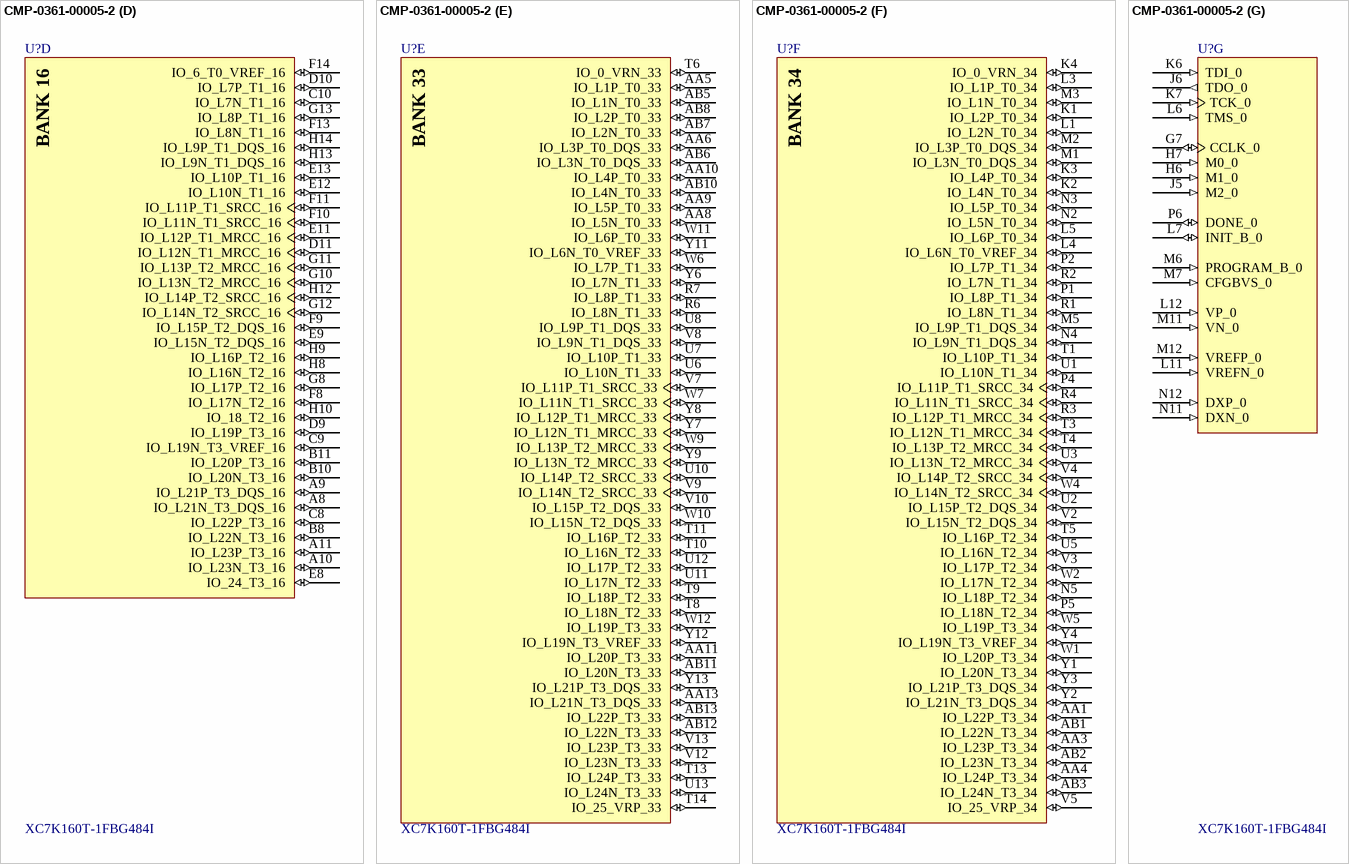
[diagram p2: symbol CMP-0361-00005-2]

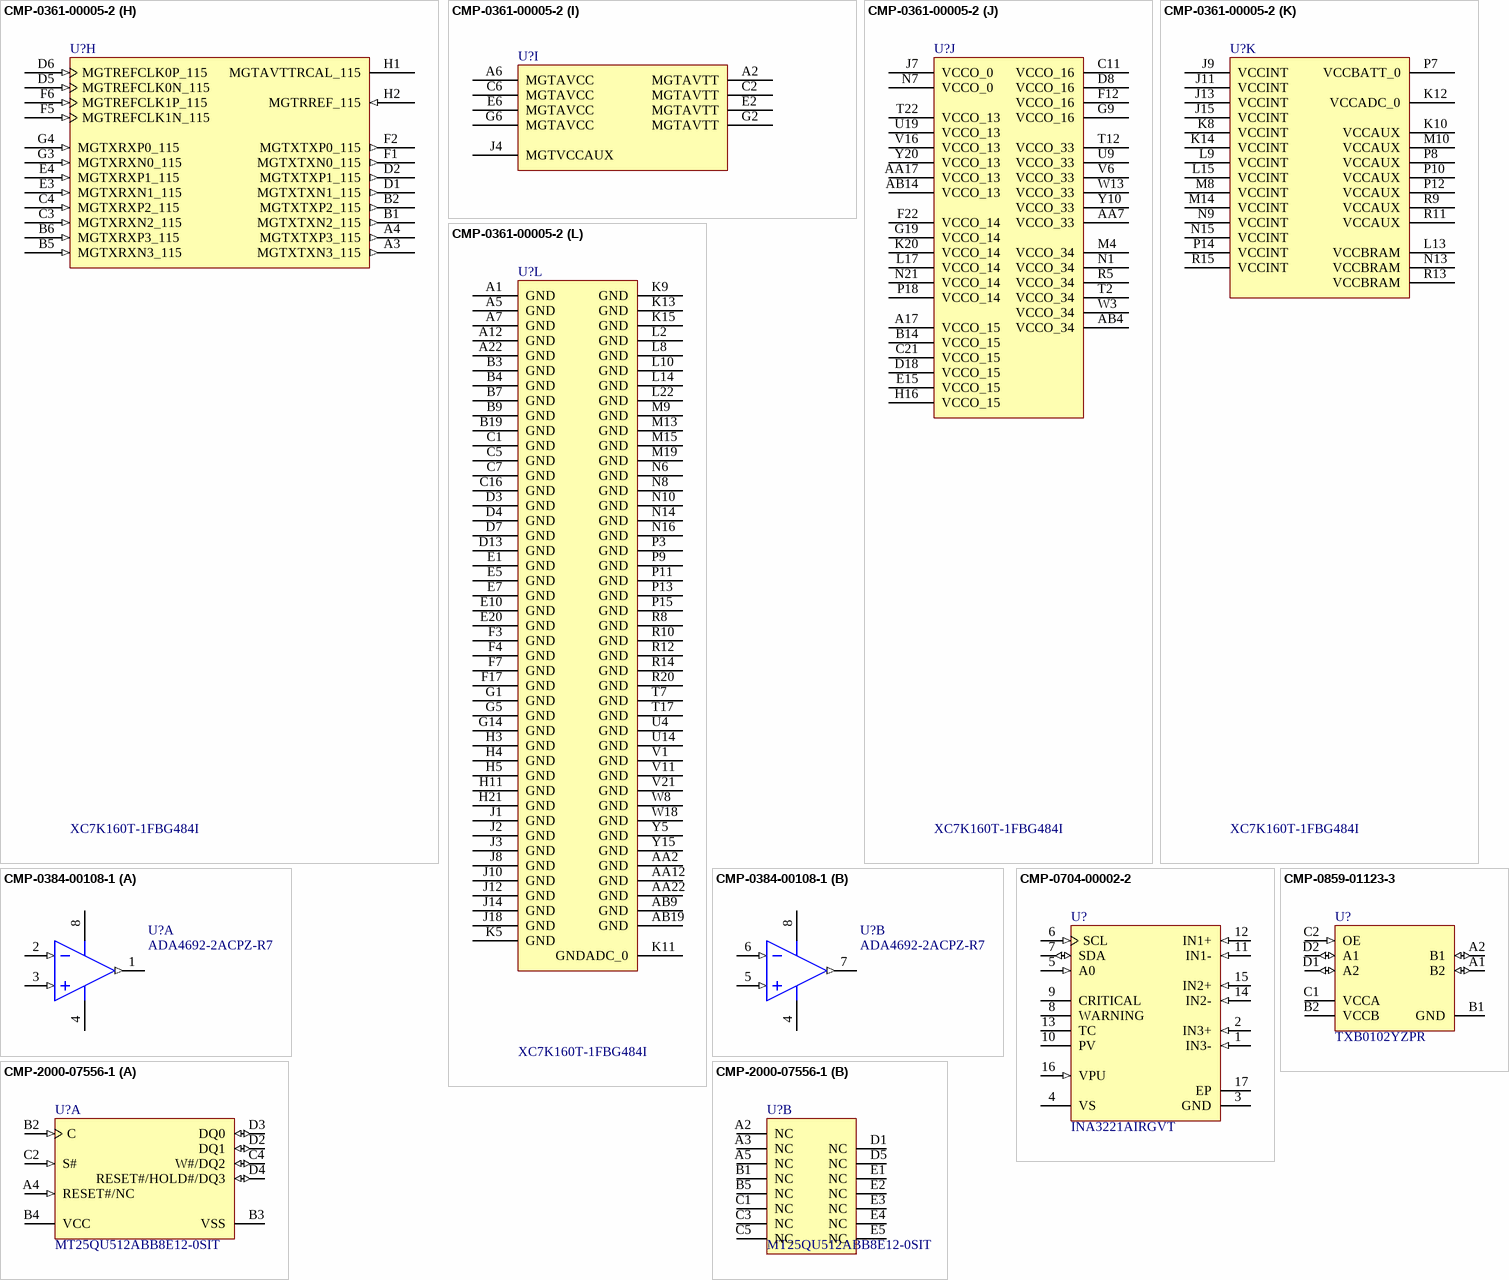
[diagram p3: symbols CMP-0361-00005-2 to CMP-2000-07556-1]

## CMP-0361-00005-2
designator U?, comment XC7K160T-1FBG484I
Kintex-7 FPGA, 400 User I/Os, 4 GTX, 484-Ball BGA, Speed Grade 1, Industrial Grade, Pb-Free; Manufacturer: Xilinx; SelectIO HR: 185; SelectIO HP: 100; GTX: 4; Speed Grade: -1; ComponentLink2Description: Package Specification; PartNumber: XC7K160T-1FBG484I; Generic Part Number: XC7K160T; PackageReference: FBG484; ComponentLink1URL: http://www.xilinx.com/support/documentation/data_sheets/ds180_7Series_Overview.pdf; DatasheetVersion: v1.12; Code_JEDEC: MS-034; RoHS: Pb-Free; ComponentLink2URL: http://www.xilinx.com/support/documentation/user_guides/ug475_7Series_Pkg_Pinout.pdf; PackageVersion: Rev 1.8; ComponentLink1Description: Datasheet; PackageDescription: 1.0 mm Pitch Flip-Chip Lidless BGA (FBG484); Mounting Technology: Surface Mount; Manufacturer Part Number: XC7K160T-1FBG484I
footprint FBG484 (BGA, 484-Balls, Body 23x23mm, Pitch 1.0mm)
part A pins: A18 IO_L10N_T1_AD4N_15 (io), A19 IO_L20N_T3_A19_15 (io), A20 IO_L22P_T3_A17_15 (io), A21 IO_L22N_T3_A16_15 (io), AB1 IO_L22N_T3_34 (io), AB2 IO_L23N_T3_34 (io), AB3 IO_L24N_T3_34 (io), AB22 IO_L9N_T1_DQS_13 (io), B20 IO_L24P_T3_RS1_15 (io), B21 IO_L24N_T3_RS0_15 (io), D11 IO_L12N_T1_MRCC_16 (io), E11 IO_L12P_T1_MRCC_16 (io), G21 IO_L9P_T1_DQS_14 (io), H20 IO_L11N_T1_SRCC_14 (io), K17 IO_L6N_T0_D08_VREF_14 (io), L16 IO_L6P_T0_FCS_B_14 (io), L19 IO_L12P_T1_MRCC_14 (io), L20 IO_L12N_T1_MRCC_14 (io), M1 IO_L3N_T0_DQS_34 (io), M2 IO_L3P_T0_DQS_34 (io), M17 IO_L14P_T2_SRCC_14 (io), N19 IO_L13N_T2_MRCC_14 (io), P1 IO_L8P_T1_34 (io), R16 IO_L20P_T3_13 (io), R18 IO_L19P_T3_A10_D26_14 (io), T15 IO_L24P_T3_13 (io), T16 IO_L20N_T3_13 (io), T19 IO_0_13 (io), U1 IO_L10N_T1_34 (io), U15 IO_L24N_T3_13 (io), U16 IO_L19P_T3_13 (io), U17 IO_L5P_T0_13 (io), U18 IO_L3N_T0_DQS_13 (io), U20 IO_L6N_T0_VREF_13 (io), V14 IO_25_13 (io), V15 IO_L23P_T3_13 (io), V17 IO_L19N_T3_VREF_13 (io), V20 IO_L11P_T1_SRCC_13 (io), W14 IO_L22P_T3_13 (io), W15 IO_L23N_T3_13 (io), W16 IO_L21P_T3_DQS_13 (io), W17 IO_L14P_T2_SRCC_13 (io), W19 IO_L12N_T1_MRCC_13 (io), W20 IO_L11N_T1_SRCC_13 (io), W21 IO_L4P_T0_13 (io), Y14 IO_L22N_T3_13 (io), Y16 IO_L21N_T3_DQS_13 (io), Y17 IO_L14N_T2_SRCC_13 (io), Y18 IO_L13P_T2_MRCC_13 (io), Y19 IO_L13N_T2_MRCC_13 (io)
part B pins: E21 IO_L7P_T1_D09_14 (io), E22 IO_L7N_T1_D10_14 (io), F19 IO_L2N_T0_D03_14 (io), F20 IO_L4N_T0_D05_14 (io), F21 IO_L9N_T1_DQS_D13_14 (io), G18 IO_L2P_T0_D02_14 (io), G20 IO_L4P_T0_D04_14 (io), G21 IO_L9P_T1_DQS_14 (io), G22 IO_L8N_T1_D12_14 (io), H18 IO_L1P_T0_D00_MOSI_14 (io), H19 IO_L1N_T0_D01_DIN_14 (io), H20 IO_L11N_T1_SRCC_14 (io), H22 IO_L8P_T1_D11_14 (io), J19 IO_L3N_T0_DQS_EMCCLK_14 (io), J20 IO_L11P_T1_SRCC_14 (io), J21 IO_L10P_T1_D14_14 (io), J22 IO_L10N_T1_D15_14 (io), K16 IO_0_14 (io), K17 IO_L6N_T0_D08_VREF_14 (io), K18 IO_L3P_T0_DQS_PUDC_B_14 (io), K19 IO_L5N_T0_D07_14 (io), K21 IO_L16P_T2_CSI_B_14 (io), K22 IO_L16N_T2_A15_D31_14 (io), L16 IO_L6P_T0_FCS_B_14 (io), L18 IO_L5P_T0_D06_14 (io), L19 IO_L12P_T1_MRCC_14 (io), L20 IO_L12N_T1_MRCC_14 (io), L21 IO_L18N_T2_A11_D27_14 (io), M16 IO_25_14 (io), M17 IO_L14P_T2_SRCC_14 (io), M18 IO_L14N_T2_SRCC_14 (io), M20 IO_L18P_T2_A12_D28_14 (io), M21 IO_L17N_T2_A13_D29_14 (io), M22 IO_L15N_T2_DQS_DOUT_CSO_B_14 (io), N17 IO_L23N_T3_A02_D18_14 (io), N18 IO_L13P_T2_MRCC_14 (io), N19 IO_L13N_T2_MRCC_14 (io), N20 IO_L17P_T2_A14_D30_14 (io), N22 IO_L15P_T2_DQS_RDWR_B_14 (io), P16 IO_L23P_T3_A03_D19_14 (io), P17 IO_L21N_T3_DQS_A06_D22_14 (io), P19 IO_L20P_T3_A08_D24_14 (io), P20 IO_L20N_T3_A07_D23_14 (io), P21 IO_L22P_T3_A05_D21_14 (io), P22 IO_L22N_T3_A04_D20_14 (io), R17 IO_L21P_T3_DQS_14 (io), R18 IO_L19P_T3_A10_D26_14 (io), R19 IO_L19N_T3_A09_D25_VREF_14 (io), R21 IO_L24P_T3_A01_D17_14 (io), R22 IO_L24N_T3_A00_D16_14 (io)
part C pins: A13 IO_L4P_T0_AD9P_15 (io), A14 IO_L4N_T0_AD9N_15 (io), A15 IO_L9N_T1_DQS_AD11N_15 (io), A16 IO_L8N_T1_AD3N_15 (io), A18 IO_L10N_T1_AD4N_15 (io), A19 IO_L20N_T3_A19_15 (io), A20 IO_L22P_T3_A17_15 (io), A21 IO_L22N_T3_A16_15 (io), B12 IO_L2N_T0_AD8N_15 (io), B13 IO_L5N_T0_AD2N_15 (io), B15 IO_L9P_T1_DQS_AD11P_15 (io), B16 IO_L8P_T1_AD3P_15 (io), B17 IO_L10P_T1_AD4P_15 (io), B18 IO_L20P_T3_A20_15 (io), B20 IO_L24P_T3_RS1_15 (io), B21 IO_L24N_T3_RS0_15 (io), B22 IO_L21N_T3_DQS_A18_15 (io), C12 IO_L2P_T0_AD8P_15 (io), C13 IO_L5P_T0_AD2P_15 (io), C14 IO_L7P_T1_AD10P_15 (io), C15 IO_L7N_T1_AD10N_15 (io), C17 IO_L12P_T1_MRCC_AD5P_15 (io), C18 IO_L12N_T1_MRCC_AD5N_15 (io), C19 IO_L19P_T3_A22_15 (io), C20 IO_L19N_T3_A21_VREF_15 (io), C22 IO_L21P_T3_DQS_15 (io), D12 IO_0_15 (io), D14 IO_L6N_T0_VREF_15 (io), D15 IO_L11P_T1_SRCC_AD12P_15 (io), D16 IO_L11N_T1_SRCC_AD12N_15 (io), D17 IO_L14N_T2_SRCC_15 (io), D19 IO_L18P_T2_A24_15 (io), D20 IO_L18N_T2_A23_15 (io), D21 IO_L23P_T3_FOE_B_15 (io), D22 IO_L23N_T3_FWE_B_15 (io), E14 IO_L6P_T0_15 (io), E16 IO_L14P_T2_SRCC_15 (io), E17 IO_L13P_T2_MRCC_15 (io), E18 IO_L13N_T2_MRCC_15 (io), E19 IO_L17N_T2_A25_15 (io), F15 IO_L3P_T0_DQS_AD1P_15 (io), F16 IO_L3N_T0_DQS_AD1N_15 (io), F18 IO_L17P_T2_A26_15 (io), G15 IO_L1P_T0_AD0P_15 (io), G16 IO_L1N_T0_AD0N_15 (io), G17 IO_L15N_T2_DQS_ADV_B_15 (io), H15 IO_25_15 (io), H17 IO_L15P_T2_DQS_15 (io), J16 IO_L16P_T2_A28_15 (io), J17 IO_L16N_T2_A27_15 (io)
part D pins: A8 IO_L21N_T3_DQS_16 (io), A9 IO_L21P_T3_DQS_16 (io), A10 IO_L23N_T3_16 (io), A11 IO_L23P_T3_16 (io), B8 IO_L22N_T3_16 (io), B10 IO_L20N_T3_16 (io), B11 IO_L20P_T3_16 (io), C8 IO_L22P_T3_16 (io), C9 IO_L19N_T3_VREF_16 (io), C10 IO_L7N_T1_16 (io), D9 IO_L19P_T3_16 (io), D10 IO_L7P_T1_16 (io), D11 IO_L12N_T1_MRCC_16 (io), E8 IO_24_T3_16 (io), E9 IO_L15N_T2_DQS_16 (io), E11 IO_L12P_T1_MRCC_16 (io), E12 IO_L10N_T1_16 (io), E13 IO_L10P_T1_16 (io), F8 IO_L17N_T2_16 (io), F9 IO_L15P_T2_DQS_16 (io), F10 IO_L11N_T1_SRCC_16 (io), F11 IO_L11P_T1_SRCC_16 (io), F13 IO_L8N_T1_16 (io), F14 IO_6_T0_VREF_16 (io), G8 IO_L17P_T2_16 (io), G10 IO_L13N_T2_MRCC_16 (io), G11 IO_L13P_T2_MRCC_16 (io), G12 IO_L14N_T2_SRCC_16 (io), G13 IO_L8P_T1_16 (io), H8 IO_L16N_T2_16 (io), H9 IO_L16P_T2_16 (io), H10 IO_18_T2_16 (io), H12 IO_L14P_T2_SRCC_16 (io), H13 IO_L9N_T1_DQS_16 (io), H14 IO_L9P_T1_DQS_16 (io)
part E pins: AA5 IO_L1P_T0_33 (io), AA6 IO_L3P_T0_DQS_33 (io), AA8 IO_L5N_T0_33 (io), AA9 IO_L5P_T0_33 (io), AA10 IO_L4P_T0_33 (io), AA11 IO_L20P_T3_33 (io), AA13 IO_L21N_T3_DQS_33 (io), AB5 IO_L1N_T0_33 (io), AB6 IO_L3N_T0_DQS_33 (io), AB7 IO_L2N_T0_33 (io), AB8 IO_L2P_T0_33 (io), AB10 IO_L4N_T0_33 (io), AB11 IO_L20N_T3_33 (io), AB12 IO_L22N_T3_33 (io), AB13 IO_L22P_T3_33 (io), R6 IO_L8N_T1_33 (io), R7 IO_L8P_T1_33 (io), T6 IO_0_VRN_33 (io), T8 IO_L18N_T2_33 (io), T9 IO_L18P_T2_33 (io), T10 IO_L16N_T2_33 (io), T11 IO_L16P_T2_33 (io), T13 IO_L24P_T3_33 (io), T14 IO_25_VRP_33 (io), U6 IO_L10N_T1_33 (io), U7 IO_L10P_T1_33 (io), U8 IO_L9P_T1_DQS_33 (io), U10 IO_L14P_T2_SRCC_33 (io), U11 IO_L17N_T2_33 (io), U12 IO_L17P_T2_33 (io), U13 IO_L24N_T3_33 (io), V7 IO_L11P_T1_SRCC_33 (io), V8 IO_L9N_T1_DQS_33 (io), V9 IO_L14N_T2_SRCC_33 (io), V10 IO_L15P_T2_DQS_33 (io), V12 IO_L23N_T3_33 (io), V13 IO_L23P_T3_33 (io), W6 IO_L7P_T1_33 (io), W7 IO_L11N_T1_SRCC_33 (io), W9 IO_L13P_T2_MRCC_33 (io), W10 IO_L15N_T2_DQS_33 (io), W11 IO_L6P_T0_33 (io), W12 IO_L19P_T3_33 (io), Y6 IO_L7N_T1_33 (io), Y7 IO_L12N_T1_MRCC_33 (io), Y8 IO_L12P_T1_MRCC_33 (io), Y9 IO_L13N_T2_MRCC_33 (io), Y11 IO_L6N_T0_VREF_33 (io), Y12 IO_L19N_T3_VREF_33 (io), Y13 IO_L21P_T3_DQS_33 (io)
part F pins: AA1 IO_L22P_T3_34 (io), AA3 IO_L23P_T3_34 (io), AA4 IO_L24P_T3_34 (io), AB1 IO_L22N_T3_34 (io), AB2 IO_L23N_T3_34 (io), AB3 IO_L24N_T3_34 (io), K1 IO_L2P_T0_34 (io), K2 IO_L4N_T0_34 (io), K3 IO_L4P_T0_34 (io), K4 IO_0_VRN_34 (io), L1 IO_L2N_T0_34 (io), L3 IO_L1P_T0_34 (io), L4 IO_L6N_T0_VREF_34 (io), L5 IO_L6P_T0_34 (io), M1 IO_L3N_T0_DQS_34 (io), M2 IO_L3P_T0_DQS_34 (io), M3 IO_L1N_T0_34 (io), M5 IO_L9P_T1_DQS_34 (io), N2 IO_L5N_T0_34 (io), N3 IO_L5P_T0_34 (io), N4 IO_L9N_T1_DQS_34 (io), N5 IO_L18P_T2_34 (io), P1 IO_L8P_T1_34 (io), P2 IO_L7P_T1_34 (io), P4 IO_L11P_T1_SRCC_34 (io), P5 IO_L18N_T2_34 (io), R1 IO_L8N_T1_34 (io), R2 IO_L7N_T1_34 (io), R3 IO_L12P_T1_MRCC_34 (io), R4 IO_L11N_T1_SRCC_34 (io), T1 IO_L10P_T1_34 (io), T3 IO_L12N_T1_MRCC_34 (io), T4 IO_L13P_T2_MRCC_34 (io), T5 IO_L16P_T2_34 (io), U1 IO_L10N_T1_34 (io), U2 IO_L15P_T2_DQS_34 (io), U3 IO_L13N_T2_MRCC_34 (io), U5 IO_L16N_T2_34 (io), V2 IO_L15N_T2_DQS_34 (io), V3 IO_L17P_T2_34 (io), V4 IO_L14P_T2_SRCC_34 (io), V5 IO_25_VRP_34 (io), W1 IO_L20P_T3_34 (io), W2 IO_L17N_T2_34 (io), W4 IO_L14N_T2_SRCC_34 (io), W5 IO_L19P_T3_34 (io), Y1 IO_L20N_T3_34 (io), Y2 IO_L21N_T3_DQS_34 (io), Y3 IO_L21P_T3_DQS_34 (io), Y4 IO_L19N_T3_VREF_34 (io)
part G pins: G7 CCLK_0 (io), H6 M1_0 (in), H7 M0_0 (in), J5 M2_0 (in), J6 TDO_0 (out), K6 TDI_0 (in), K7 TCK_0 (in), L6 TMS_0 (in), L7 INIT_B_0 (io), L11 VREFN_0 (in), L12 VP_0 (in), M6 PROGRAM_B_0 (in), M7 CFGBVS_0 (in), M11 VN_0 (in), M12 VREFP_0 (in), N11 DXN_0 (in), N12 DXP_0 (in), P6 DONE_0 (io)
part H pins: A3 MGTXTXN3_115 (out), A4 MGTXTXP3_115 (out), B1 MGTXTXN2_115 (out), B2 MGTXTXP2_115 (out), B5 MGTXRXN3_115 (in), B6 MGTXRXP3_115 (in), C3 MGTXRXN2_115 (in), C4 MGTXRXP2_115 (in), D1 MGTXTXN1_115 (out), D2 MGTXTXP1_115 (out), D5 MGTREFCLK0N_115 (in), D6 MGTREFCLK0P_115 (in), E3 MGTXRXN1_115 (in), E4 MGTXRXP1_115 (in), F1 MGTXTXN0_115 (out), F2 MGTXTXP0_115 (out), F5 MGTREFCLK1N_115 (in), F6 MGTREFCLK1P_115 (in), G3 MGTXRXN0_115 (in), G4 MGTXRXP0_115 (in), H1 MGTAVTTRCAL_115, H2 MGTRREF_115 (in)
part I pins: A2 MGTAVTT (power), A6 MGTAVCC (power), C2 MGTAVTT (power), C6 MGTAVCC (power), E2 MGTAVTT (power), E6 MGTAVCC (power), G2 MGTAVTT (power), G6 MGTAVCC (power), J4 MGTVCCAUX (power)
part J pins: A17 VCCO_15 (power), AA7 VCCO_33 (power), AA17 VCCO_13 (power), AB4 VCCO_34 (power), AB14 VCCO_13 (power), B14 VCCO_15 (power), C11 VCCO_16 (power), C21 VCCO_15 (power), D8 VCCO_16 (power), D18 VCCO_15 (power), E15 VCCO_15 (power), F12 VCCO_16 (power), F22 VCCO_14 (power), G9 VCCO_16 (power), G19 VCCO_14 (power), H16 VCCO_15 (power), J7 VCCO_0 (power), K20 VCCO_14 (power), L17 VCCO_14 (power), M4 VCCO_34 (power), N1 VCCO_34 (power), N7 VCCO_0 (power), N21 VCCO_14 (power), P18 VCCO_14 (power), R5 VCCO_34 (power), T2 VCCO_34 (power), T12 VCCO_33 (power), T22 VCCO_13 (power), U9 VCCO_33 (power), U19 VCCO_13 (power), V6 VCCO_33 (power), V16 VCCO_13 (power), W3 VCCO_34 (power), W13 VCCO_33 (power), Y10 VCCO_33 (power), Y20 VCCO_13 (power)
part K pins: J9 VCCINT (power), J11 VCCINT (power), J13 VCCINT (power), J15 VCCINT (power), K8 VCCINT (power), K10 VCCAUX (power), K12 VCCADC_0 (power), K14 VCCINT (power), L9 VCCINT (power), L13 VCCBRAM (power), L15 VCCINT (power), M8 VCCINT (power), M10 VCCAUX (power), M14 VCCINT (power), N9 VCCINT (power), N13 VCCBRAM (power), N15 VCCINT (power), P7 VCCBATT_0 (power), P8 VCCAUX (power), P10 VCCAUX (power), P12 VCCAUX (power), P14 VCCINT (power), R9 VCCAUX (power), R11 VCCAUX (power), R13 VCCBRAM (power), R15 VCCINT (power)
part L pins: A1 GND (power), A5 GND (power), A7 GND (power), A12 GND (power), A22 GND (power), AA2 GND (power), AA12 GND (power), AA22 GND (power), AB9 GND (power), AB19 GND (power), B3 GND (power), B4 GND (power), B7 GND (power), B9 GND (power), B19 GND (power), C1 GND (power), C5 GND (power), C7 GND (power), C16 GND (power), D3 GND (power), D4 GND (power), D7 GND (power), D13 GND (power), E1 GND (power), E5 GND (power), E7 GND (power), E10 GND (power), E20 GND (power), F3 GND (power), F4 GND (power), F7 GND (power), F17 GND (power), G1 GND (power), G5 GND (power), G14 GND (power), H3 GND (power), H4 GND (power), H5 GND (power), H11 GND (power), H21 GND (power), J1 GND (power), J2 GND (power), J3 GND (power), J8 GND (power), J10 GND (power), J12 GND (power), J14 GND (power), J18 GND (power), K5 GND (power), K9 GND (power), K11 GNDADC_0 (power), K13 GND (power), K15 GND (power), L2 GND (power), L8 GND (power), L10 GND (power), L14 GND (power), L22 GND (power), M9 GND (power), M13 GND (power), M15 GND (power), M19 GND (power), N6 GND (power), N8 GND (power), N10 GND (power), N14 GND (power), N16 GND (power), P3 GND (power), P9 GND (power), P11 GND (power), P13 GND (power), P15 GND (power), R8 GND (power), R10 GND (power), R12 GND (power), R14 GND (power), R20 GND (power), T7 GND (power), T17 GND (power), U4 GND (power), U14 GND (power), V1 GND (power), V11 GND (power), V21 GND (power), W8 GND (power), W18 GND (power), Y5 GND (power), Y15 GND (power)
part A text: BANK 13
part B text: BANK 14
part C text: BANK 15
part D text: BANK 16
part E text: BANK 33
part F text: BANK 34

## CMP-0384-00108-1
designator U?, comment ADA4692-2ACPZ-R7
Double Channel Low Power Operational Amplifier, 3.6 MHz BW, 1.3 V/us SR, Industrial, 8-pin SON (CP-8-6), Reel; Manufacturer: Analog Devices; V Span Max: 5V; Input Offset Voltage: 500uV; Input Bias Current: 500fA; Small Signal Bandwidth: 3.6MHz; Iq/Amp: 180uA; V Span Min: 2.7V; Amplifiers Per Package: 2; DatasheetVersion: Rev. D; PackageReference: CP-8-6; ComponentLink3URL: http://www.analog.com/static/imported-files/packages/PKG_PDF/LFCSP(CP)/CP_8_6.pdf; PartNumber: ADA4692-2ACPZ-R7; ComponentLink1Description: Manufacturer URL; PackageVersion: 041508-A; ComponentLink3Description: Package Specification; ComponentLink2Description: Datasheet; ComponentLink1URL: http://www.analog.com/en/index.html; Mounting Technology: Surface Mount; Generic Part Number: ADA4692-2; Slew Rate: 1.3V/us; PackageDescription: 8-Pin Lead Frame Chip Scale Package, Body 2 x 2 mm, Pitch 0.5 mm; ComponentLink2URL: http://www.analog.com/static/imported-files/data_sheets/ADA4691-2_4691-4_4692-2_4692-4.pdf; Manufacturer Part Number: ADA4692-2ACPZ-R7
footprint ADI-CP-8-6_V (SON, 8-Leads, Body 2x2mm, Pitch 0.5mm)
pins on every part: 4 -V (power), 8 +V (power)
part A pins: 1 OUT A (out), 2 -IN A (in), 3 +IN A (in)
part B pins: 5 +IN B (in), 6 -IN B (in), 7 OUT B (out)

## CMP-0704-00002-2
designator U?, comment INA3221AIRGVT
Triple Channel Shunt and Bus Voltage Monitor, 120 dB, 2.7 to 5.5 V, -40 to 125 degC, 16-Pin VQFN (RGV), Green (RoHS & no Sb/Br), Tape and Reel; Manufacturer: Texas Instruments; Voltage Input Range (Bus): 0 to 26 V; Gain Error (max): 0.25%; Gain: 1 V/V; CMR (Typ): 120 dB; Offset Voltage (max): +/- 80 uV; Rating: Catalog; Quiescent Current (Typ): 350 uA; Mounting Technology: Surface Mount; PackageReference: RGV0016A; PackageDescription: 16-Pin Quad Flat No-lead Package, Body 4 x 4 mm, Pitch 0.65 mm; ComponentLink3Description: Package Specification; RoHS: TRUE; ComponentLink3URL: http://www.ti.com/lit/ds/symlink/ina3221.pdf; Packing: Tape and Reel; ComponentLink2URL: http://www.ti.com/lit/ds/symlink/ina3221.pdf; Operating Supply Range: 2.7 to 5.5 V; PackageVersion: SBOS576A; ComponentLink1Description: Manufacturer URL; DatasheetVersion: SBOS576A; ComponentLink1URL: http://www.ti.com/; Temperature Range: -40 to 125 degC; PartNumber: INA3221AIRGVT; ComponentLink2Description: Datasheet; Manufacturer Part Number: INA3221AIRGVT
footprint RGV0016A_V (QFN, 16-Leads, Body 4x4mm, Pitch 0.65mm, Thermal Pad 2.16x2.16mm, TI Recommended)
pins: 1 IN3- (in) "Connect to load side of the channel 3 shunt resistor Bus voltage is the measurement from this pin to ground.", 2 IN3+ (in) "Connect to supply side of the channel 3 shunt resistor.", 3 GND (power) "Ground", 4 VS (power) "Power supply, 2.7 V to 5.5 V.", 5 A0 (in) "Address pin. Connect to GND, SCL, SDA, or VS", 6 SCL (in) "Serial bus clock line; open-drain input", 7 SDA (io) "Serial bus data line; open-drain input/output.", 8 WARNING (oc) "Averaged measurement warning alert; open-drain output.", 9 CRITICAL (oc) "Conversion-triggered critical alert; open-drain output.", 10 PV (oc) "Power valid alert; open-drain output", 11 IN1- (in) "Connect to load side of the channel 1 shunt resistor Bus voltage is the measurement from this pin to ground.", 12 IN1+ (in) "Connect to supply side of the channel 1 shunt resistor.", 13 TC (oc) "Timing control alert; open-drain output.", 14 IN2- (in) "Connect to load side of the channel 2 shunt resistor Bus voltage is the measurement from this pin to ground.", 15 IN2+ (in) "Connect to supply side of the channel 2 shunt resistor.", 16 VPU (in) "Pull-up supply voltage used to bias power valid output circuitry", 17 EP

## CMP-0859-01123-3
designator U?, comment TXB0102YZPR
2-Bit Bidirectional Voltage-Level Translator with Auto Direction Sensing and +/-15-kV ESD Protect, YZP0008ADAD, LARGE T&R; Manufacturer: Texas Instruments; ICC @ Nom Voltage(Max)(mA): 0.005; VCC(Min)(V): 1.2; VCC(Max)(V): 5.5; Rating: Catalog; Input Type: CMOS/TTL; Sub-Family: Dual Supply Translator; 3-State Output: No; Output Type: CMOS; Logic: True; Bits(#): 2; tpd @ Nom Voltage(Max)(ns): 4.9; Voltage(Nom)(V): 3.3; Generic Part Number: TXB0102; Operating Temperature Range(C): -40 to 85; PackageReference: YZP0008ADAD; Schmitt Trigger: No; DatasheetVersion: SCES641C; Manufacturer Part Number: TXB0102YZPR
footprint YZP0008ADAD (BGA, 8-Balls, Body 1.89x0.89mm, Pitch 0.5mm)
pins: A1 B2 (io) "Input/output B. Referenced to VCCB.", A2 B1 (io) "Input/output B1. Referenced to VCCB.", B1 GND (power) "Ground", B2 VCCB (power) "B-port supply voltage. 1.65 V =< VCCB =< 5.5 V", C1 VCCA (power) "A-port supply voltage. 1.1 V =< VCCA =< 3.6 V, VCCA =< VCCB", C2 OE (in) "3-state output-mode enable. Pull OE low to place all outputs in 3-state mode. Referenced to VCCA.", D1 A2 (io) "Input/output A2. Referenced to VCCA.", D2 A1 (io) "Input/output A1. Referenced to VCCA."

## CMP-2000-07556-1
designator U?, comment MT25QU512ABB8E12-0SIT
Micron Serial NOR Flash Memory, 512 Mbits, 1.7 to 2 V, -40 to 85 degC, 24-Pin T-PBGA (12), RoHS; Manufacturer: Micron Technology; Manufacturer URL: http://www.micron.com/; RoHSCompliant: False; Package Reference: 12-24; Manufacturer: Micron; Mounting Technology: SurfaceMount; Datasheet Version: Rev. E, 06/2017; Package Description: 24-Ball Plastic Ball Grid Array, Body 8 x 6 mm, Pitch 1 mm; Datasheet URL: https://www.micron.com/~/media/documents/products/data-sheet/nor-flash/serial-nor/mt25q/die-rev-b/mt25q_qlkt_u_512_abb_0.pdf; Manufacturer Part Number: MT25QU512ABB8E12-0SIT
footprint MICT-12-24 (BGA, 24-Balls, Body 8x6mm, Pitch 1 mm)
part A pins: A4 RESET#/NC (in), B2 C (in) "Clock: Provides the timing of the serial interface. Command inputs are latched on the rising edge of the clock. In STR commands or protocol, address and data inputs are latched on the rising edge of the clock, while data is (See Datasheet)", B3 VSS (power) "Core and I/O ground connection.", B4 VCC (power) "Core and I/O power supply.", C2 S# (in) "Chip select: When S# is driven HIGH, the device will enter standby mode, unless an internal PROGRAM, ERASE, or WRITE STATUS REGISTER cycle is in progress. All other input pins are ignored and the output pins are tri-stated. (See Datasheet)", C4 W#/DQ2 (io), D2 DQ1 (io) "Serial I/O: The bidirectional DQ signals transfer address, data, and command information. When using legacy (x1) SPI commands in extended I/O protocol (XIO-SPI), DQ0 is an input and DQ1 is an output. DQ[3:2] are not used. (See Datasheet)", D3 DQ0 (io) "Serial I/O: The bidirectional DQ signals transfer address, data, and command information. When using legacy (x1) SPI commands in extended I/O protocol (XIO-SPI), DQ0 is an input and DQ1 is an output. DQ[3:2] are not used. (See Datasheet)", D4 RESET#/HOLD#/DQ3 (io)
part B pins: A2 NC "Do not use. Must be left floating.", A3 NC "Do not use. Must be left floating.", A5 NC "Do not use. Must be left floating.", B1 NC "Do not use. Must be left floating.", B5 NC "Do not use. Must be left floating.", C1 NC "Do not use. Must be left floating.", C3 NC "Do not use. Must be left floating.", C5 NC "Do not use. Must be left floating.", D1 NC "Do not use. Must be left floating.", D5 NC "Do not use. Must be left floating.", E1 NC "Do not use. Must be left floating.", E2 NC "Do not use. Must be left floating.", E3 NC "Do not use. Must be left floating.", E4 NC "Do not use. Must be left floating.", E5 NC "Do not use. Must be left floating."

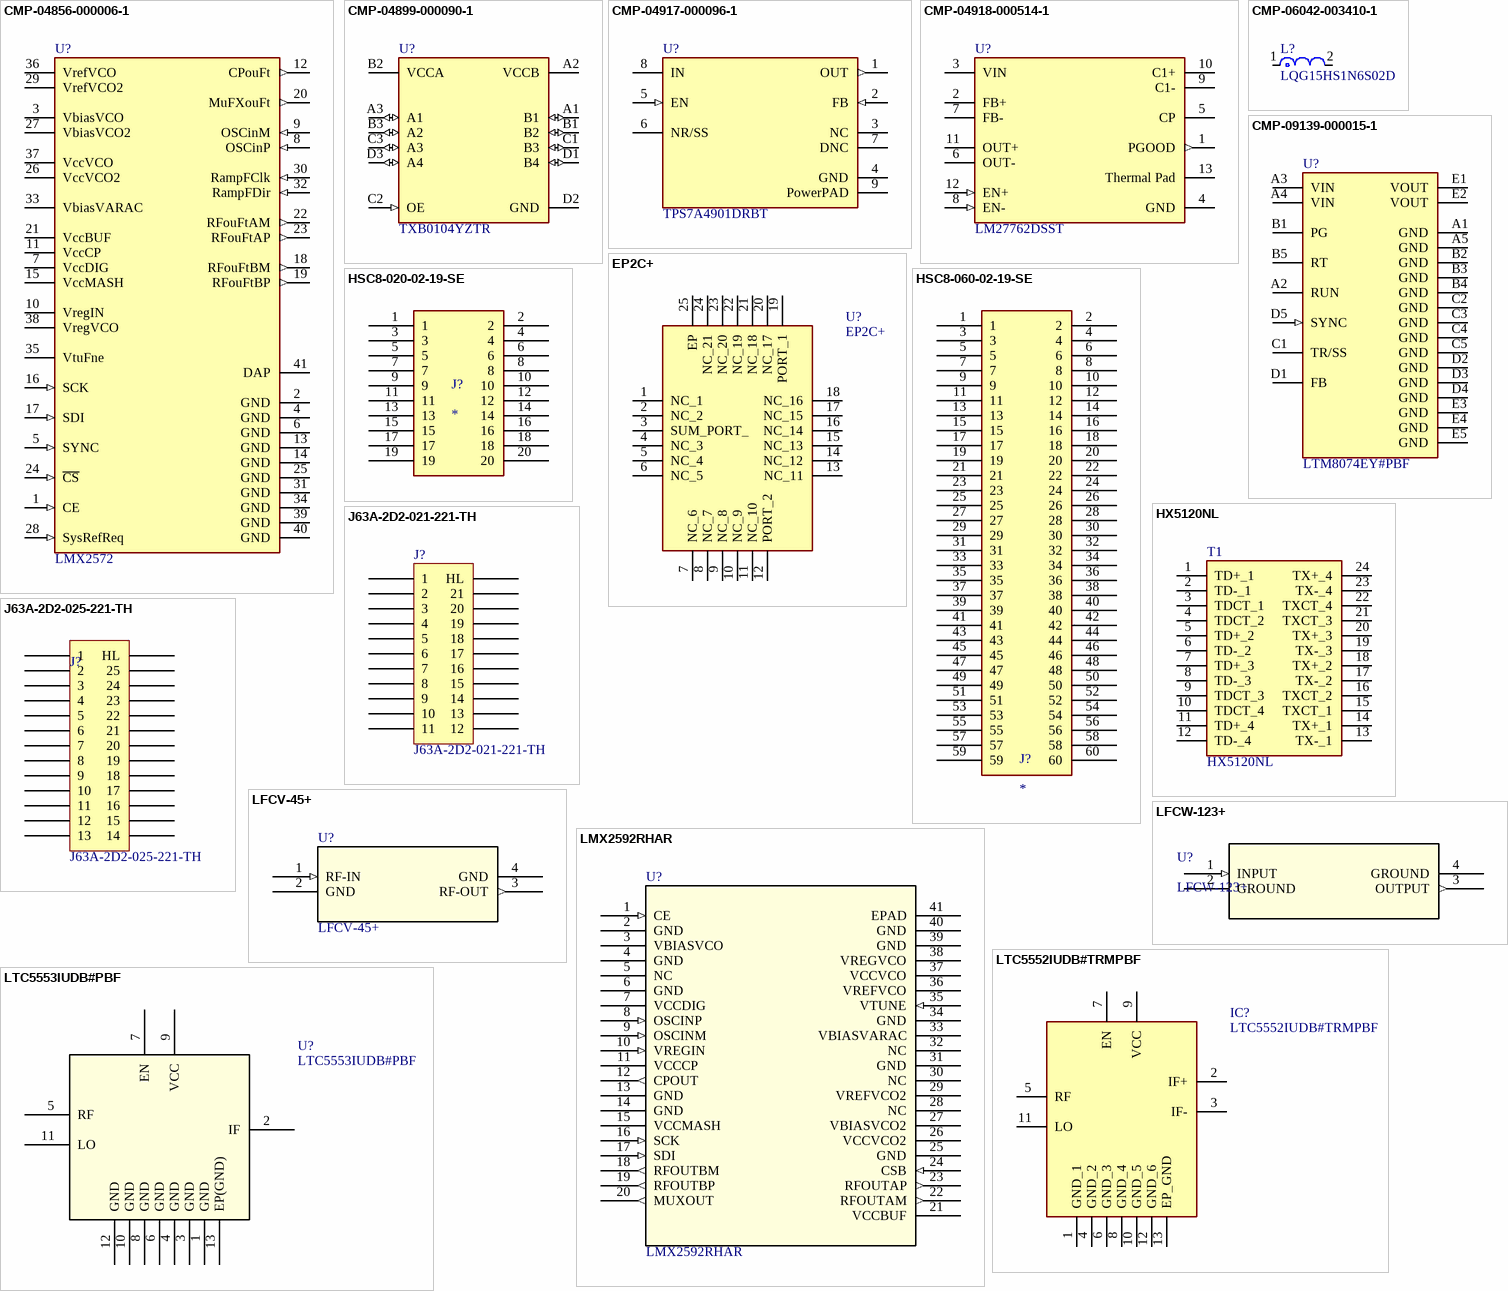
[diagram p4: symbols CMP-04856-000006-1 to LTC5553IUDB#PBF]

## CMP-04856-000006-1
designator U?, comment LMX2572
IC FREQUENCY SYNTH 40VQFN; PLL: Yes; Max Frequency: 2GHz; Input: Clock; Number of Circuits: 1; RoHS Compliant: Yes; Case/Package: VQFN; Mount: Surface Mount; Packaging: Tape and Reel; Max Operating Temperature: 85°C; Min Operating Temperature: -40°C
footprint FP-RHA0040H-MFG
footprint FP-RHA0040H-IPC_B
footprint FP-RHA0040H-IPC_A
footprint FP-RHA0040H-IPC_C
pins: 1 CE (in), 2 GND (power), 3 VbiasVCO (power), 4 GND (power), 5 SYNC (in), 6 GND (power), 7 VccDIG (power), 8 OSCinP (in), 9 OSCinM (in), 10 VregIN (power), 11 VccCP (power), 12 CPouFt (out), 13 GND (power), 14 GND (power), 15 VccMASH (power), 16 SCK (in), 17 SDI (in), 18 RFouFtBM (out), 19 RFouFtBP (out), 20 MuFXouFt (out), 21 VccBUF (power), 22 RFouFtAM (out), 23 RFouFtAP (out), 24 ~{CS} (in), 25 GND (power), 26 VccVCO2 (power), 27 VbiasVCO2 (power), 28 SysRefReq (in), 29 VrefVCO2 (power), 30 RampFClk (in), 31 GND (power), 32 RampFDir (in), 33 VbiasVARAC (power), 34 GND (power), 35 VtuFne (power), 36 VrefVCO (power), 37 VccVCO (power), 38 VregVCO (power), 39 GND (power), 40 GND (power), 41 DAP (power)

## CMP-04899-000090-1
designator U?, comment TXB0104YZTR
IC TRNSLTR BIDIRECTIONAL 12DSBGA; Data Rate: 100Mbps; Logic Function: Translator; Min Supply Voltage: 1.2V; Low Level Output Current: 20uA; High Level Output Current: -20uA; Propagation Delay: 31ns; Turn-On Delay Time: 7.4ns; Output Type: 3-STATE; Max Supply Voltage: 5.5V; Number of Channels: 4; Quiescent Current: 3.5uA; Package Quantity: 1; Series: -; Number of Pins: 12; Mount: Surface Mount; Radiation Hardening: No; Lead Free: Lead Free; Max Operating Temperature: 85°C; REACH SVHC: No SVHC; Case/Package: BGA; Contact Plating: Copper; RoHS Compliant: Yes; Min Operating Temperature: -40°C; Packaging: Tape and Reel; Number of Bits: 4
footprint FP-YZT0012-IPC_C
footprint FP-YZT0012-IPC_B
footprint FP-YZT0012-IPC_A
pins: A1 B1 (io), A2 VCCB (power), A3 A1 (io), B1 B2 (io), B2 VCCA (power), B3 A2 (io), C1 B3 (io), C2 OE (in), C3 A3 (io), D1 B4 (io), D2 GND (power), D3 A4 (io)

## CMP-04917-000096-1
designator U?, comment TPS7A4901DRBT
IC REG LINEAR 150MA 8SON; Quiescent Current: 60uA; Min Output Voltage: 1.2V; Min Input Voltage: 3V; Max Output Voltage: 33V; Output Type: Adjustable; Dropout Voltage: 333mV; Max Input Voltage: 36V; Number of Pins: 8; REACH SVHC: No SVHC; Output Current: 150mA; Packaging: Cut Tape; Min Operating Temperature: -40°C; Output Voltage: 1.2V; Lead Free: Lead Free; RoHS Compliant: Yes; Max Operating Temperature: 125°C
footprint FP-DRB0008A-MFG
pins: 1 OUT (out), 2 FB (in), 3 NC, 4 GND (power), 5 EN (in), 6 NR/SS, 7 DNC, 8 IN (power), 9 PowerPAD (power)

## CMP-04918-000514-1
designator U?, comment LM27762DSST
IC REG CHARGE PUMP ADJ DL 12WSON; Min Output Voltage: 1.5V; Quiescent Current: 390uA; Max Output Voltage: 5V; Max Input Voltage: 5.5V; Output Current: 250mA; Min Input Voltage: 2.7V; Switching Frequency: 2.3MHz; Synchronous Rectifier: No; Output Type: Adjustable; Topology: Charge Pump; Max Operating Temperature: 85°C; Lead Free: Lead Free; Mount: Surface Mount; RoHS Compliant: Yes; Number of Pins: 12; Packaging: Tape and Reel; Min Operating Temperature: -40°C
footprint FP-DSS0012B-MFG
footprint FP-DSS0012B-IPC_B
footprint FP-DSS0012B-IPC_C
footprint FP-DSS0012B-IPC_A
pins: 1 PGOOD (out), 2 FB+ (power), 3 VIN (power), 4 GND (power), 5 CP (power), 6 OUT- (power), 7 FB- (power), 8 EN- (in), 9 C1- (power), 10 C1+ (power), 11 OUT+ (power), 12 EN+ (in), 13 Thermal Pad (power)